# EAGLE library part RJ12-QUAD (library controller-r3)
quad 6p6c RJ modular jack
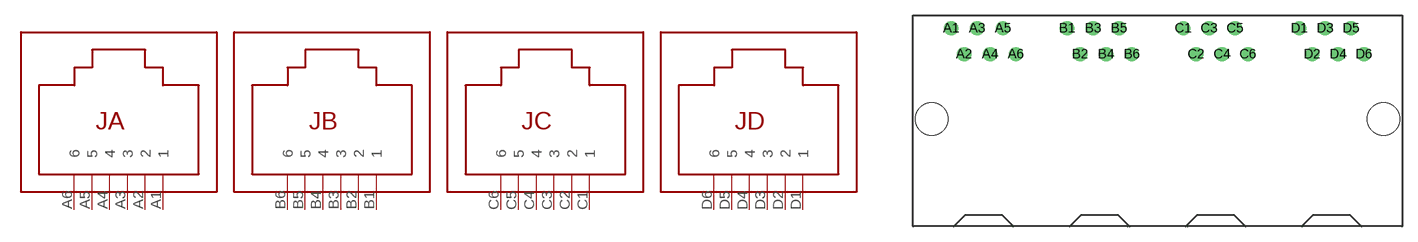
[diagram p3: symbol with the pads of SS-666604-NF; footprint SS-666604-NF]

Designator prefix J; gates A=6P6C B=6P6C C=6P6C D=6P6C

## RJ12-QUAD  [SS-666604-NF]
A1  A:1
A2  A:2
A3  A:3
A4  A:4
A5  A:5
A6  A:6
B1  B:1
B2  B:2
B3  B:3
B4  B:4
B5  B:5
B6  B:6
C1  C:1
C2  C:2
C3  C:3
C4  C:4
C5  C:5
C6  C:6
D1  D:1
D2  D:2
D3  D:3
D4  D:4
D5  D:5
D6  D:6

## Footprint SS-666604-NF (pad centres in mm)
drill 0.889: A1 -20.244,8.89; A2 -18.974,6.35; A3 -17.704,8.89; A4 -16.434,6.35; A5 -15.164,8.89; A6 -13.894,6.35; B1 -8.865,8.89; B2 -7.595,6.35; B3 -6.325,8.89; B4 -5.055,6.35; B5 -3.785,8.89; B6 -2.515,6.35; C1 2.515,8.89; C2 3.785,6.35; C3 5.055,8.89; C4 6.325,6.35; C5 7.595,8.89; C6 8.865,6.35; D1 13.894,8.89; D2 15.164,6.35; D3 16.434,8.89; D4 17.704,6.35; D5 18.974,8.89; D6 20.244,6.35
hole 3.2 at -22.149,0
hole 3.2 at 22.149,0